# Altium schematic symbol library Schlib1.SchLib: 6 symbols
Pins are listed as number, name and electrical type; pins without a type are passive.

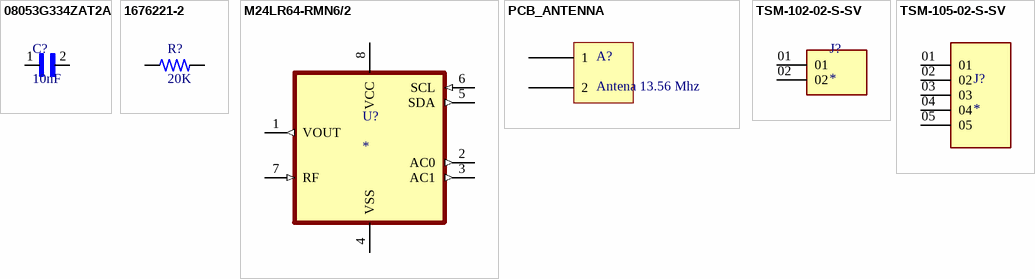
[diagram p0: symbols 08053G334ZAT2A to TSM-105-02-S-SV]

## 08053G334ZAT2A
designator C?, comment 10nF
Cap Ceramic 0.33uF 25V Y5V -20% to 80% SMD 0805 85Â°C Paper T/R; MP: 08053G334ZAT2A; Package: None; Price: None; Value: *; Availability: Unavailable
footprint CAPC2012X140N
pins: 1, 2

## 1676221-2
designator R?, comment 20K
RN 0805 20K 0.1% 10PPM 1KRL; MP: 1676221-2; Price: None; Package: None; Availability: Unavailable; Value: *
footprint RESC2012X65N
pins: 1, 2

## M24LR64-RMN6/2
designator U?
64 Kbit EEPROM; MP: M24LR64-RMN6-2; Package: None; Price: None; Value: *; Availability: Unavailable
footprint SOIC127P600X175-8N
pins: 1 VOUT (out), 2 AC0 (out), 3 AC1 (out), 4 VSS (power), 5 SDA (out), 6 SCL (in), 7 RF (in), 8 VCC (power)

## PCB_ANTENNA
designator A?, comment Antena 13.56 Mhz
Antenna 13.56 Mhz
footprint pcb_antenna
pins: 1, 2

## TSM-102-02-S-SV
designator J?
Conn Unshrouded Header HDR 2 POS 2.54mm Solder ST SMD T/R; MF: Samtec Inc.; MP: TSM-102-02-S-SV-P-TR; Check_prices: https://www.snapeda.com/parts/TSM-102-02-S-SV-P-TR/Samtec%20Inc./view-part/3255768/?ref=eda; Value: *; SnapEDA_Link: https://www.snapeda.com/parts/TSM-102-02-S-SV-P-TR/Samtec%20Inc./view-part/3255768/?ref=snap; Price: None; Availability: Unavailable; Package: None; Purchase-URL: https://pricing.snapeda.com/search/part/TSM-102-02-S-SV-P-TR/?ref=eda
footprint SAMTEC_TSM-102-02-S-SV
pins: 01, 02

## TSM-105-02-S-SV
designator J?
Conn Unshrouded Header HDR 5 POS 2.54mm Solder ST SMD Tube; MP: TSM-105-02-S-SV; MF: Samtec; Check_prices: https://www.snapeda.com/parts/TSM-105-02-S-SV/Samtec/view-part/?ref=eda; Value: *; Availability: In Stock; Price: None; SnapEDA_Link: https://www.snapeda.com/parts/TSM-105-02-S-SV/Samtec/view-part/?ref=snap; Package: None; Purchase-URL: https://pricing.snapeda.com/search/part/TSM-105-02-S-SV/?ref=eda
footprint SAMTEC_TSM-105-02-S-SV
pins: 01, 02, 03, 04, 05